# Altium integrated library ESP-12F.IntLib: 1 symbol
Pins are listed as number, name and electrical type; pins without a type are passive.

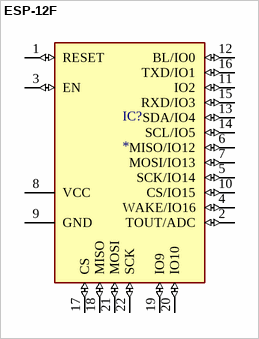
[diagram p0: symbol ESP-12F]

## ESP-12F
designator IC?
WiFi Module; MF: AI-Thinker; MP: ESP-12F; Value: *; SnapEDA_Link: https://www.snapeda.com/parts/ESP-12F/AI-Thinker/view-part/?ref=snap; Availability: Not in stock; Price: None; Package: Package; Check_prices: https://www.snapeda.com/parts/ESP-12F/AI-Thinker/view-part/?ref=eda
footprint ESP-12F
pins: 1 RESET (io), 2 TOUT/ADC (io), 3 EN (io), 4 WAKE/IO16 (io), 5 SCK/IO14 (io), 6 MISO/IO12 (io), 7 MOSI/IO13 (io), 8 VCC (power), 9 GND (power), 10 CS/IO15 (io), 11 IO2 (io), 12 BL/IO0 (io), 13 SDA/IO4 (io), 14 SCL/IO5 (io), 15 RXD/IO3 (io), 16 TXD/IO1 (io), 17 CS (io), 18 MISO (io), 19 IO9 (io), 20 IO10 (io), 21 MOSI (io), 22 SCK (io)